# Altium footprint library commutation.pcblib: 25 footprints (part 1 of 2)
Each footprint in its own frame and in the unit in brackets; x right, y up, seen from the top. Pads: shape width x height; smd on the part's side, far side on the other; paste and mask are expansions set on the pad; w line width, h text height; cw(c..) or ccw(c..) is an arc to the next point about the centre after c.
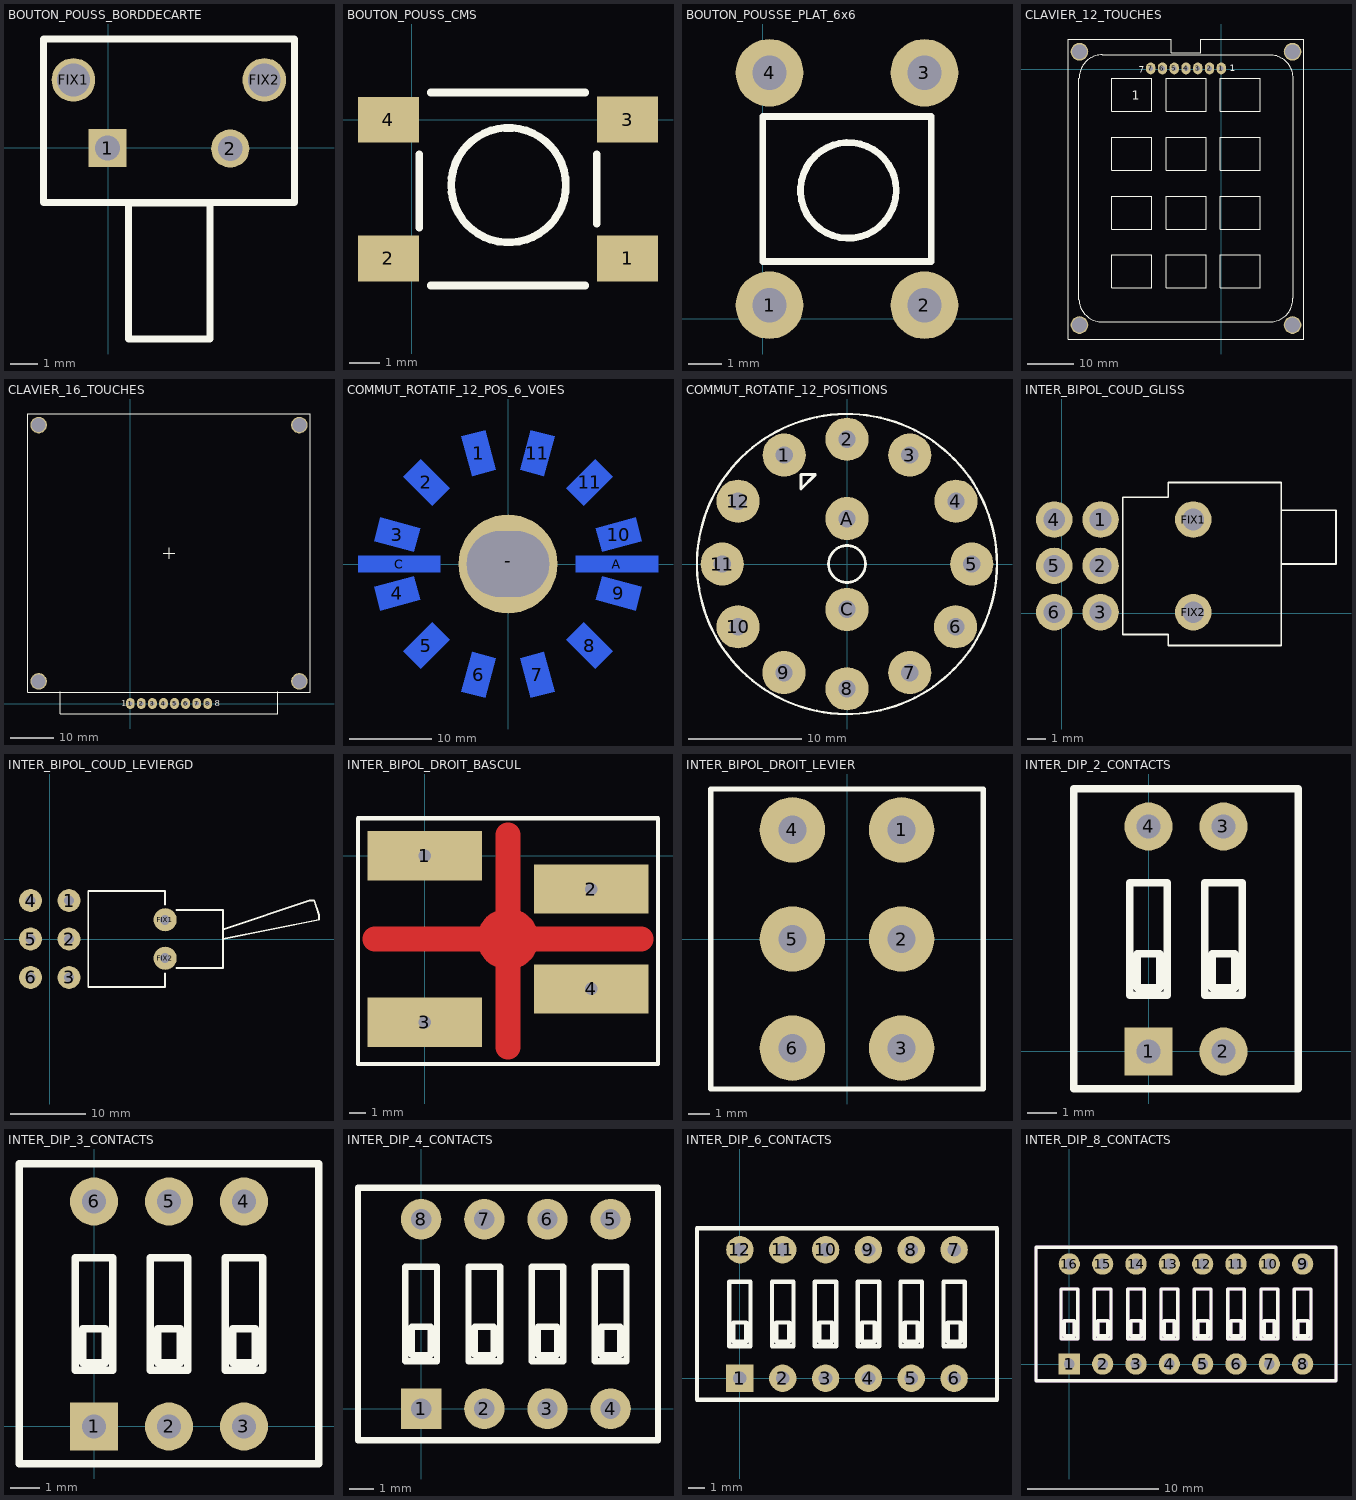
[diagram p0: the footprints below, top view; thin cyan lines are the x and y axes]

## BOUTON_POUSS_BORDDECARTE [mil] "Switch; SPNO; B3F; Right Angle; PitchLong=7/4.5; Pitchlarg=2.5"
height 291.34
pads (4):
  rect 55x55 / inner round 55 / far side round 55 hole 36: 1(-0.78,-0.78)
  round 55 hole 36: 2(176.4,-1.57)
  round 62.97 / inner round 60 / far side round 62.97 hole 47.23: FIX1(-50,97.65) FIX2(225.62,97.65)
Top Overlay:
  lines w10: 29.52,-80.32 29.52,-276.4 147.25,-276.4 147.25,-79.92 29.52,-79.92 ; -93.32,-79.53 -93.32,156.7 269.32,156.7 269.32,-79.53 -93.32,-79.53
3D body: height 290.35, standoff -137.8, extent -74.62,-334.24 254.62,156.7

## BOUTON_POUSS_CMS [mil]
pads (4):
  rect 78.74x60 smd: 1(280,-180) 2(-30,-180) 3(280,0)
  rect 78.74x59.06 smd: 4(-30,0)
Top Overlay:
  circle w10: c125.67,-85 r74.33
  lines w10: 10,-140 10,-45 ; 25,-215 225,-215 ; 25,35 225,35 ; 240,-135 240,-45
3D body: height 218.5, standoff 0.82, extent -77.52,-214.75 317.52,35

## BOUTON_POUSSE_PLAT_6x6 [mil] "BOUTON POUSSOIR MINIATURE ON/OFF; BOUTON PLAT/LONG ; ESPACEMENT BROCHES = 7.62mm/5.08mm"
height 165.35
pads (4):
  round 79 hole 40: 1(7.87,15.75) 2(188.98,15.75) 3(188.98,287.4) 4(7.87,287.4)
Top Overlay:
  circle w8: c100,150 r55.9
  lines w8: 0,66.93 196.85,66.93 196.85,236.22 0,236.22 0,66.93
3D body: height 275.59, standoff -137.8, extent -22.05,-1.02 222.05,310

## CLAVIER_12_TOUCHES [mil] "CLAVIER 50mm x 65mm"
pads (11):
  oval 79x100 hole 40: 1(0,5) 2(-100,5) 3(-200,5) 4(-300,5) 5(-400,5) 6(-500,5) 7(-600,5)
  round 150 hole 126: FIX1(-1205.52,146.73) FIX2(605.52,146.73) FIX3(605.52,-2176.1) FIX4(-1205.52,-2176.1)
Top Overlay:
  lines w8: -1209.91,-1959.9 -1209.91,-79.96 ; -1209.8,-1959.9 ccw(c-1014.82,-1953.2) -1010.04,-2148.24 ; -1208.33,-79.96 cw(c-1013.3,-74.98) -1010,120.09 ; -1010,-2150 410,-2150 ; -1010,120 410.04,120 ; 410,-2150.09 ccw(c413.3,-1955.02) 608.33,-1950.04 ; 410.04,118.33 cw(c415.02,-76.7) 610.09,-80 ; 610,-1950.04 610,-80 ; -1300,-2295 -1300,255 -425,255 -425,140 -175,140 -175,255 700,255 700,-2295 -1300,-2295
  lines w10: -930,-1860 -930,-1580 -590,-1580 -590,-1860 -930,-1860 ; -930,-1360 -930,-1080 -590,-1080 -590,-1360 -930,-1360 ; -930,-860 -930,-580 -590,-580 -590,-860 -930,-860 ; -930,-360 -930,-80 -590,-80 -590,-360 -930,-360 ; -470,-1860 -470,-1580 -130,-1580 -130,-1860 -470,-1860 ; -470,-1360 -470,-1080 -130,-1080 -130,-1360 -470,-1360 ; -470,-860 -470,-580 -130,-580 -130,-860 -470,-860 ; -470,-360 -470,-80 -130,-80 -130,-360 -470,-360 ; -10,-1860 -10,-1580 330,-1580 330,-1860 -10,-1860 ; -10,-1360 -10,-1080 330,-1080 330,-1360 -10,-1360 ; -10,-860 -10,-580 330,-580 330,-860 -10,-860 ; -10,-360 -10,-80 330,-80 330,-360 -10,-360
  text "1" at -760,-260 h78.74
  text "7" at -700,-30 h56.25
  text "1" at 70,-20 h56.25
3D body: height 365.75, standoff -279.92, extent -1400,-2680 800,320

## CLAVIER_16_TOUCHES [mil] "CLAVIER 65mm x 69mm"
pads (12):
  oval 79x100 hole 40: 1(0,0) 2(100,0) 3(200,0) 4(300,0) 5(400,0) 6(500,0) 7(600,0) 8(700,0)
  round 150 hole 126: FIX1(-830,2520) FIX2(1530,2520) FIX3(1530,200) FIX4(-830,200)
Top Overlay:
  lines w8: -635,105 -635,-95 1335,-95 1335,105 ; 300,1360 400,1360 ; 350,1310 350,1410 ; -930,100 -930,2620 1630,2620 1630,100 -930,100
  text "1" at -80,-25 h56.25
  text "8" at 765,-25 h56.25

## COMMUT_ROTATIF_12_POS_6_VOIES [mm] "COMMUTATEUR ROTATIF 12 POSITIONS 2 POLES ; DIAMETRE : 33mm"
height 26
pads (15):
  rect 3x5 smd far side rot 15: 1(-3.556,13.462) 7(3.556,-13.462)
  rect 3x5 smd far side rot 45: 2(-9.906,9.906) 8(9.906,-9.906)
  rect 3x5 smd far side rot 75: 3(-13.462,3.556) 9(13.462,-3.556)
  rect 3x5 smd far side rot 105: 4(-13.462,-3.556) 10(13.462,3.556)
  rect 3x5 smd far side rot 135: 5(-9.906,-9.906) 11(9.906,9.906)
  rect 3x5 smd far side rot 165: 6(-3.556,-13.462) 11(3.556,13.462)
  round 12 hole 8 slot 10 at 0 deg: -(0,0)
  rect 10x2 smd far side: A(13.208,0) C(-13.208,0)
Bottom Overlay:
  lines w0.254: -14.445,-1.267 ccw(c0,0) -14.359,-2.015 ; -14.44,1.313 cw(c0,0) -14.354,2.051 ; -13.434,5.457 cw(c0,0) -11.402,8.958 ; -13.408,-5.521 ccw(c0,0) -11.446,-8.902 ; -8.902,-11.446 ccw(c0,0) -5.43,-13.445 ; -8.902,11.446 cw(c0,0) -5.341,13.48 ; -2.032,14.478 cw(c-0.017,0.119) 2.031,14.473 ; -2.01,-14.36 ccw(c0,0) 2.015,-14.359 ; 5.341,13.48 cw(c0,0) 8.902,11.446 ; 5.43,-13.445 ccw(c0,0) 8.936,-11.419 ; 11.446,-8.902 ccw(c0,0) 13.48,-5.341 ; 11.495,8.941 cw(c0.085,-0.006) 13.551,5.37 ; 14.355,-2.002 ccw(c-0.009,-0.021) 14.438,-1.267 ; 14.359,2.015 cw(c0,0) 14.44,1.313

## COMMUT_ROTATIF_12_POSITIONS [mil] "Single Deck Rotary Switches; 12 Position;  2 pole; 30°"
height 1023.62
pads (14):
  round 150 hole 60: 1(-218,378) 2(0,433.07) 3(218,378) 4(378,218) 5(433.07,0) 6(377,-218) 7(218,-377) 8(0,-433.07) 9(-219,-377) 10(-378,-218) 11(-433.07,0) 12(-378,218) A(0,157.48) C(0,-157.48)
Top Overlay:
  circle w8: c0,0 r520.62
  circle w10: c0,0 r64.03
  lines w10: -160,260 -160,310 -110,310 -160,260

## INTER_BIPOL_COUD_GLISS [mil] "Sealed Tiny Slide Switches; ES21MABE; DPDT; 3 Position; Pin Spacing=2.54mm"
height 251.18
pads (8):
  round 78.73 / inner round 60 / far side round 78.73 hole 47.23: 1(84,202) 2(84,102) 3(84,2) 4(-16,202) 5(-16,102) 6(-16,2) FIX1(284,202) FIX2(284,2)
Top Overlay:
  lines w3.93: 132,-46 132,250 230,250 230,282 474,282 474,-70 230,-70 230,-46 132,-46 ; 474,106 474,222 592,222 592,106 474,106

## INTER_BIPOL_COUD_LEVIERGD [mil] "INTERRUPTEUR BIPOLAIRE COUDE A LEVIER; DEPLACEMENT GAUCHE DROITE ; 25.4mm x 12.7mm ; ESPACEMENTS BROCHES : 5.08mm"
height 300
pads (8):
  round 120 hole 52: 1(100,200) 2(100,0) 3(100,-200) 4(-100,200) 5(-100,0) 6(-100,-200) FIX1(600,100) FIX2(600,-100)
Top Overlay:
  lines w10: 600,-180 600,-250 200,-250 200,250 600,250 600,180 ; 660,-150 900,-150 900,150 660,150 ; 900,0 1400,100 1400,125 1375,200 1350,200 900,50 900,0

## INTER_BIPOL_DROIT_BASCUL [mm]
pads (4):
  rect 7x3 hole 0.762: 1(0,0) 2(10.16,-2.032) 3(0,-10.16) 4(10.16,-8.128)
Top Layer:
  circle w1: c5.08,-5.08 r1.368
  lines w1.5: -3.048,-5.08 13.208,-5.08 ; 5.08,-11.684 5.08,1.27
Top Overlay:
  lines w0.254: -4.064,-12.7 -4.064,2.286 14.224,2.286 14.224,-12.7 -4.064,-12.7
3D body: height 5.27, standoff -18.7, extent -5.42,-12.7 15.58,2.3

## INTER_BIPOL_DROIT_LEVIER [mil] "INTERRUPTEUR BIPOLAIRE DROIT A LEVIER ; DIMENSIONS : 11mm x 12mm ; ESPACEMENTS BROCHES : 5.08mm"
height 1299.21
pads (6):
  round 120 hole 52: 1(100,200) 2(100,0) 3(100,-200) 4(-100,200) 5(-100,0) 6(-100,-200)
Top Overlay:
  lines w10: -250,-275 -250,275 250,275 250,-275 -250,-275
3D body: height 1203.76, standoff -156, extent -232.5,-250 232.5,250

## INTER_DIP_2_CONTACTS [mil] "Thru-Hole DIP Switches; SPST; 2 Position; Pin Spacing=2.54mm"
height 294.88
pads (4):
  rect 64x64 / inner round 64 / far side round 64 hole 32: 1(0,0)
  round 64 hole 32: 2(100,0) 3(100,300) 4(0,300)
Top Overlay:
  lines w10: -100,-50 200,-50 200,350 -100,350 -100,-50 ; -25,75 25,75 25,225 -25,225 -25,75 ; -15,85 15,85 15,130 -15,130 -15,85 ; 75,75 125,75 125,225 75,225 75,75 ; 85,85 115,85 115,130 85,130 85,85
3D body: height 271.65, standoff -125.98, extent -79.84,-50 180,350

## INTER_DIP_3_CONTACTS [mil] "Thru-Hole DIP Switches; SPST; 3 Position; Pin Spacing=2.54mm"
height 294.88
pads (6):
  rect 64x64 / inner round 64 / far side round 64 hole 32: 1(0,0)
  round 64 hole 32: 2(100,0) 3(200,0) 4(200,300) 5(100,300) 6(0,300)
Top Overlay:
  lines w10: -100,-50 -100,350 300,350 300,-50 -100,-50 ; -25,75 -25,225 25,225 25,75 -25,75 ; -15,85 -15,130 15,130 15,85 -15,85 ; 75,75 75,225 125,225 125,75 75,75 ; 85,85 85,130 115,130 115,85 85,85 ; 175,75 175,225 225,225 225,75 175,75 ; 185,85 185,130 215,130 215,85 185,85
3D body: height 271.65, standoff -125.98, extent -79.92,-50 279.92,350

## INTER_DIP_4_CONTACTS [mil] "Thru-Hole DIP Switches; SPST; 4 Position; Pin Spacing=2.54mm"
height 294.88
pads (8):
  rect 64x64 / inner round 64 / far side round 64 hole 32: 1(0,0)
  round 64 hole 32: 2(100,0) 3(200,0) 4(300,0) 5(300,300) 6(200,300) 7(100,300) 8(0,300)
Top Overlay:
  lines w10: -100,-50 -100,350 375,350 375,-50 -100,-50 ; -25,75 -25,225 25,225 25,75 -25,75 ; -15,85 -15,130 15,130 15,85 -15,85 ; 75,75 75,225 125,225 125,75 75,75 ; 85,85 85,130 115,130 115,85 85,85 ; 175,75 175,225 225,225 225,75 175,75 ; 185,85 185,130 215,130 215,85 185,85 ; 275,75 325,75 325,225 275,225 275,75 ; 285,85 315,85 315,130 285,130 285,85
3D body: height 271.65, standoff -125.98, extent -79.92,-50 379.92,350

## INTER_DIP_6_CONTACTS [mil] "Thru-Hole DIP Switches; SPST; 6 Position; Pin Spacing=2.54mm"
height 294.88
pads (12):
  rect 64x64 / inner round 64 / far side round 64 hole 32: 1(0,0)
  round 64 hole 32: 2(100,0) 3(200,0) 4(300,0) 5(400,0) 6(500,0) 7(500,300) 8(400,300) 9(300,300) 10(200,300) 11(100,300) 12(0,300)
Top Overlay:
  lines w10: -100,-50 -100,350 600,350 600,-50 -100,-50 ; -25,75 -25,225 25,225 25,75 -25,75 ; -15,85 -15,130 15,130 15,85 -15,85 ; 75,75 75,225 125,225 125,75 75,75 ; 85,85 85,130 115,130 115,85 85,85 ; 175,75 175,225 225,225 225,75 175,75 ; 185,85 185,130 215,130 215,85 185,85 ; 275,75 325,75 325,225 275,225 275,75 ; 285,85 315,85 315,130 285,130 285,85 ; 375,75 375,225 425,225 425,75 375,75 ; 385,85 385,130 415,130 415,85 385,85 ; 475,75 525,75 525,225 475,225 475,75 ; 485,85 485,130 515,130 515,85 485,85
3D body: height 271.65, standoff -125.98, extent -79.92,-50 579.92,350

## INTER_DIP_8_CONTACTS [mil] "Thru-Hole DIP Switches; SPST; 8 Position; Pin Spacing=2.54mm"
height 294.88
pads (16):
  rect 64x64 / inner round 64 / far side round 64 hole 32: 1(0,0)
  round 64 hole 32: 2(100,0) 3(200,0) 4(300,0) 5(400,0) 6(500,0) 7(600,0) 8(700,0) 9(700,300) 10(600,300) 11(500,300) 12(400,300) 13(300,300) 14(200,300) 15(100,300) 16(0,300)
Top Overlay:
  lines w10: -100,-50 -100,350 800,350 800,-50 -100,-50 ; -25,75 25,75 25,225 -25,225 -25,75 ; -15,85 15,85 15,130 -15,130 -15,85 ; 75,75 125,75 125,225 75,225 75,75 ; 85,85 115,85 115,130 85,130 85,85 ; 175,75 225,75 225,225 175,225 175,75 ; 185,85 215,85 215,130 185,130 185,85 ; 275,75 275,225 325,225 325,75 275,75 ; 285,85 285,130 315,130 315,85 285,85 ; 375,75 425,75 425,225 375,225 375,75 ; 385,85 415,85 415,130 385,130 385,85 ; 475,75 475,225 525,225 525,75 475,75 ; 485,85 515,85 515,130 485,130 485,85 ; 575,75 575,225 625,225 625,75 575,75 ; 585,85 585,130 615,130 615,85 585,85 ; 675,75 675,225 725,225 725,75 675,75 ; 685,85 685,130 715,130 715,85 685,85
Mechanical 1:
  lines w10: -15,85 15,85 ; -15,85 -15,130 ; -15,85 15,85 ; -15,85 -15,130 ; -15,130 15,130 ; -15,130 15,130 ; 15,85 15,130 ; 15,85 15,130 ; -100,-50 800,-50 800,350 -100,350 -100,-50 ; -25,75 25,75 25,225 -25,225 -25,75 ; 75,75 125,75 125,225 75,225 75,75 ; 85,85 115,85 115,130 85,130 85,85 ; 175,75 225,75 225,225 175,225 175,75 ; 185,85 215,85 215,130 185,130 185,85 ; 275,75 325,75 325,225 275,225 275,75 ; 285,85 315,85 315,130 285,130 285,85 ; 375,75 425,75 425,225 375,225 375,75 ; 385,85 415,85 415,130 385,130 385,85 ; 475,75 525,75 525,225 475,225 475,75 ; 485,85 515,85 515,130 485,130 485,85 ; 575,75 625,75 625,225 575,225 575,75 ; 585,85 615,85 615,130 585,130 585,85 ; 675,75 725,75 725,225 675,225 675,75 ; 685,85 715,85 715,130 685,130 685,85
3D body: height 271.65, standoff -125.98, extent -81.1,-50 781.1,350